# Altium schematic symbol library Discrete.SchLib: 17 symbols
Pins are listed as number, name and electrical type; pins without a type are passive.

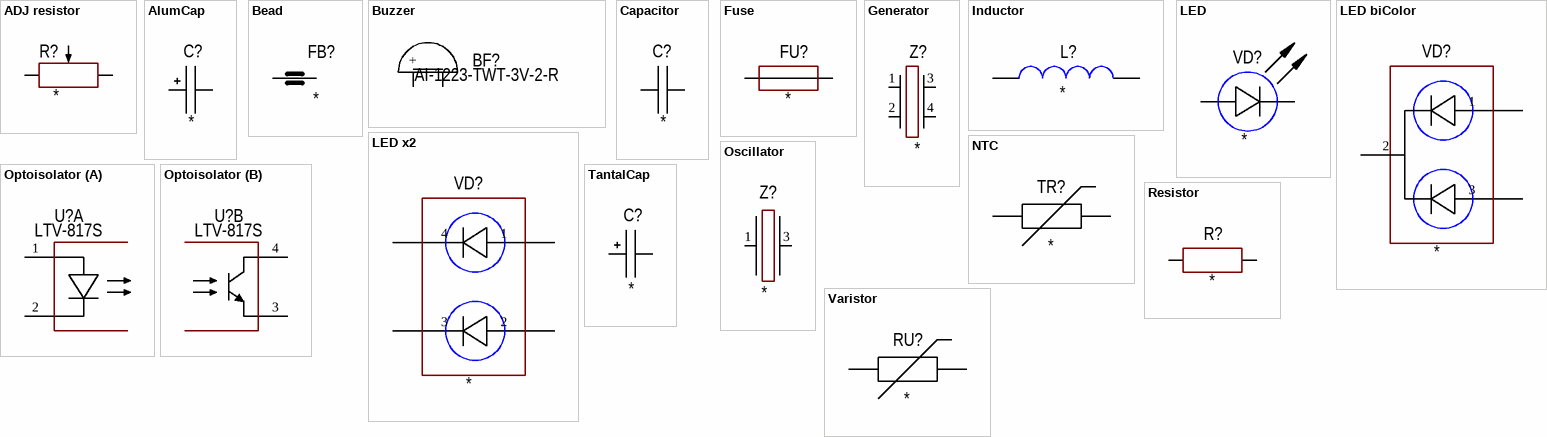
[diagram p0: symbols ADJ resistor to Varistor]

## ADJ resistor
designator R?
Manufacturer: *; Model: *; HelpURL: *; ComponentKind: *; Value: *
footprint RES: 3296W
footprint RES: 3362P
footprint RES: 3314G
pins: 1, 2, 3

## AlumCap
designator C?
Manufacturer: *; Model: *; HelpURL: *; ComponentKind: *; Value: *
footprint D5C2H11 (Polar capacitor, diameter 5 mm, leads clearance 2 mm, height 11 mm)
footprint D6.3C2.5H11 (Polar capacitor, diameter 6.3 mm, leads clearance 2.5 mm, height 11 mm)
footprint D8C3.5H12 (Polar capacitor, diameter 8 mm, leads clearance 3.5 mm, height 12 mm)
footprint D10C5H12.5 (Polar capacitor, diameter 10 mm, leads clearance 5 mm, height 12.5 mm)
footprint D10C5H16 (Polar capacitor, diameter 10 mm, leads clearance 5 mm, height 16 mm)
footprint D10C5H20 (Polar capacitor, diameter 10 mm, leads clearance 5 mm, height 20 mm)
footprint D13C5H20 (Polar capacitor, diameter 13 mm, leads clearance 5 mm, height 20 mm)
footprint D13C5H25 (Polar capacitor, diameter 13 mm, leads clearance 5 mm, height 25 mm)
footprint D16C7.5H25 (Polar capacitor, diameter 16 mm, leads clearance 7.5 mm, height 25 mm)
footprint D16C7.5H31.5 (Polar capacitor, diameter 16 mm, leads clearance 7.5 mm, height 31.5 mm)
footprint D18C7.5H41 (Polar capacitor, diameter 16 mm, leads clearance 7.5 mm, height 31.5 mm)
footprint D18C7.5H40
footprint D22C10.5H25
footprint D30C10.5H37
footprint D35C10.5H50
footprint D10C4.4H10
footprint D8C3.2H12
footprint CAP: Alchip™- MVY
footprint D6.6C6.6H6.1
footprint D6.3C2.5H16 (Polar capacitor, diameter 6.3 mm, leads clearance 2.5 mm, height 11 mm)
footprint D8C3.5H12 (90) (Polar capacitor, diameter 8 mm, leads clearance 3.5 mm, height 12 mm)
footprint D25C10H32
pins: 1 (power), 2 (power)

## Bead
designator FB?
Manufacturer: *; Model: *; HelpURL: *; ComponentKind: *; Value: *
footprint CH0201R
footprint CH0402R
footprint CH0603R
footprint CH0805R
footprint CH1206R (Chip Resistor, 2-Leads, Body 3,0x1,5mm, IPC Low Density)
pins: 1, 2

## Buzzer
designator BF?, comment AI-1223-TWT-3V-2-R
Manufacturer: PUI Audio, Inc.; Model: AI-1223-TWT-3V-2-R; HelpURL: https://www.digikey.com/product-detail/en/pui-audio-inc/AI-1223-TWT-3V-2-R/668-1456-ND/5011391; ComponentKind: Internally Driven
footprint BUZ: AI-1223-TWT-3V-2-R
pins: 1 +, 2 -

## Capacitor
designator C?
Manufacturer: *; Model: *; HelpURL: *; ComponentKind: *; Value: *
footprint CH0201C
footprint CH0402C
footprint CH0603C (Chip Capacitor, 2-Leads, Body 1,53x0,85mm, IPC Medium Density)
footprint CH0805C (Chip Capacitor, 2-Leads, Body 2,00x1,20mm, IPC Medium Density)
footprint CH1206C (Non polar chip capacitor, size 1206)
footprint CH1210C (Non polar chip capacitor, size 1210)
footprint CH1812C
footprint CH2220C
footprint CAP: B32021
footprint CAP: B32522
footprint CAP: B32654
footprint CAP: B32774
footprint CAP: B32776
footprint CAP: ECW
footprint CAP: EZPE
footprint CAP: B32676
footprint CAP: DEBB33D
footprint CAP: B32674
footprint CAP: B32672L
footprint CAP: B32653A
footprint CAP: B32521
pins: 1 (power), 2 (power)

## Fuse
designator FU?
Manufacturer: *; Model: *; HelpURL: *; ComponentKind: *; Value: *
footprint CH0603F (Chip Resistor, Body 1.6x0.8mm, EIA 0603, IPC Medium Density)
footprint CH0805F
footprint CH1206F (Chip Resistor, Body 3.2x1.6mm, EIA 1206, IPC Medium Density)
footprint FUSE: 01110501Z (5x20 mm)
footprint FUSE: FH-100 (5x20 mm)
pins: 1, 2

## Generator
designator Z?
Manufacturer: *; Model: *; HelpURL: *; ComponentKind: *; Value: *
footprint OSC: 2520
footprint OSC: 3225
footprint OSC: 5032
footprint OSC: 5032_6
footprint OSC: 5070
footprint OSC: CVHD-950-122.880
pins: 1, 2, 3, 4

## Inductor
designator L?
Manufacturer: *; Model: *; HelpURL: *; ComponentKind: *; Value: *
footprint CH0201L
footprint CH0402L
footprint CH0603L
footprint CH0805L
footprint IND: B82477G
footprint IND: CD43
footprint IND: CDEP147 (SMD inductor, 14.5x14.5x8 mm Sumida)
footprint IND: CDRH127
footprint IND: CDRH4D28
footprint IND: CDRH74
footprint IND: CDRH8D43 (SMD inductor, 8x8x4 mm)
footprint IND: IHLP 8787 (SMT inductor, 22.5x22x13 mm)
footprint IND: CDRH127
footprint IND: IHLP2020 (SMD inductor, 5.2x5.2x3 mm)
footprint IND: IHLP4040 (SMD inductor, 10.3x10.8x4 mm)
footprint IND: IHLP6767 (SMT inductor, 17x17x7 mm)
footprint IND: LQH32
footprint IND: PM75
footprint IND: SCRH105R (Inductor)
footprint IND: SDE0604A
footprint IND: SDR0403
footprint IND: SDR0805
footprint IND: SRN5040 (Precision Wire Wound Inductor, 2-Leads, Body 5,00x5,00mm, SRN5040 Series)
footprint IND: SRP1038A (SMT inductor, 11x10x3.8 mm Bourns)
footprint IND: SRP1770TA (SMD inductor, 17x17x7 mm)
footprint IND: SRR1260
footprint IND: SRU1048
footprint IND: SRN3015
footprint IND: SDR1005
footprint IND: SRR1210
footprint IND: B82477G4
footprint IND: SDR0604
footprint IND: SRP1265A
footprint IND: SRR1208
pins: 1, 2

## LED
designator VD?
Manufacturer: *; Model: *; HelpURL: *; ComponentKind: *; Value: *
footprint CH0603LB (Chip Capacitor, 2-Leads, Body 1,53x0,85mm, IPC Medium Density)
footprint CH0603LG (Chip Capacitor, 2-Leads, Body 1,53x0,85mm, IPC Medium Density)
footprint CH0603LR (Chip Capacitor, 2-Leads, Body 1,53x0,85mm, IPC Medium Density)
footprint CH0603LY (Chip Capacitor, 2-Leads, Body 1,53x0,85mm, IPC Medium Density)
footprint CH1206LB (SMD Blue Led, size 1206)
footprint CH1206LG (SMD Green Led, size 1206)
footprint CH1206LW (SMD White Led, size 1206)
footprint CH1206LY (SMD Yellow Led, size 1206)
footprint CH0805LB
footprint CH0805LG
footprint CH0805LR
footprint CH0805LY
pins: 1 A, 2 C

## LED biColor
designator VD?
Manufacturer: *; Model: *; HelpURL: *; ComponentKind: *; Value: *
footprint LED: biColor
pins: 1 A, 2 (power), 3 A

## LED x2
designator VD?
Manufacturer: *; Model: *; HelpURL: *; ComponentKind: *; Value: *
footprint LED: RED+BLUE
pins: 1 A, 2 A, 3 C, 4 C

## NTC
designator TR?
Manufacturer: *; Model: *; HelpURL: *; ComponentKind: *; Value: *
footprint NTC: B57237
pins: 1, 2

## Optoisolator
designator U?, comment LTV-817S
Manufacturer: Lite-On Inc.; Model: LTV-817S; HelpURL: https://www.digikey.com/product-detail/en/lite-on-inc/LTV-817S/160-1367-5-ND/385837; ComponentKind: 4-SMD
footprint 4-DIP
footprint 4-SMD (SOIC, 4-Leads, Body 4,60x6,50mm, Pitch 1,27mm, IPC Medium Density)
part A pins: 1 A, 2 C
part B pins: 3 E, 4 C

## Oscillator
designator Z?
Manufacturer: *; Model: *; HelpURL: *; ComponentKind: *; Value: *
footprint OSC: 2520
footprint OSC: 3215
footprint OSC: 3225
footprint OSC: 5032
footprint OSC: 5070
footprint OSC: ABM7
footprint OSC: 2016
pins: 1, 3

## Resistor
designator R?
Manufacturer: *; Model: *; HelpURL: *; ComponentKind: *; Value: *
footprint CH0201R
footprint CH0402R
footprint CH0603R
footprint CH0805R
footprint CH1206R (Chip Resistor, 2-Leads, Body 3,0x1,5mm, IPC Low Density)
footprint CH2010R
footprint CH2512R
footprint RES: SQP 10W
pins: 1, 2

## TantalCap
designator C?
Manufacturer: *; Model: *; HelpURL: *; ComponentKind: *; Value: *
footprint TANTAL_A
footprint TANTAL_B
footprint TANTAL_C
footprint TANTAL_D
footprint TANTAL_E
pins: 1 (power), 2 (power)

## Varistor
designator RU?
Manufacturer: *; Model: *; HelpURL: *; ComponentKind: *; Value: *
footprint VAR: MOV-07D431K
footprint VAR: MOV-07D431K _90deg
footprint NTC: B57237
pins: 1, 2